# Altium schematic symbol library reg_pmic.SchLib: 7 symbols
Pins are listed as number, name and electrical type; pins without a type are passive.

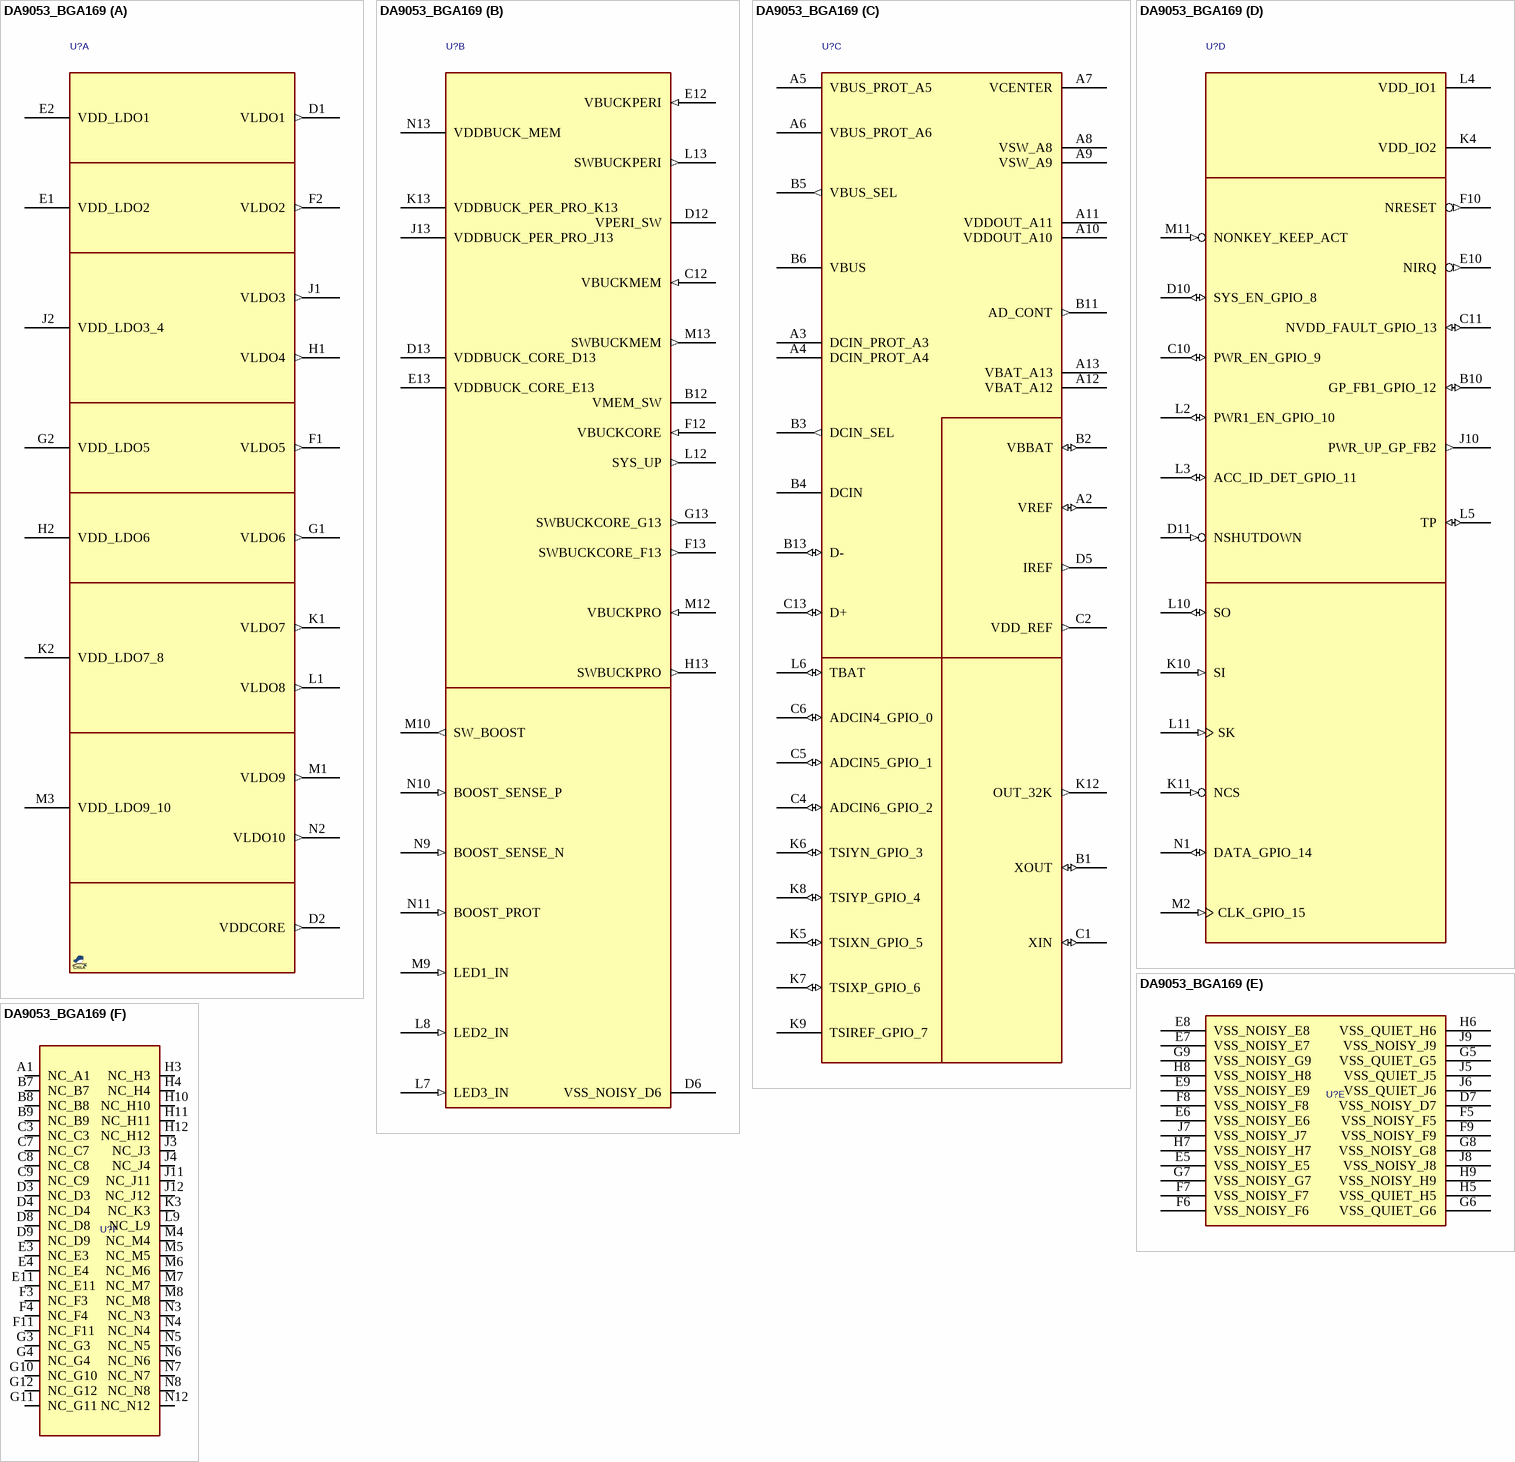
[diagram p0: symbol DA9053_BGA169]

## DA9053_BGA169
designator U?, comment DA9053  (value not drawn)
IC, Regulator PMIC, sw USB PWR MANAGER 5.5V VFBGA169; MANF: Dialog Semiconductor; MANF_P#: DA9053-XXC51; VALUE: DA9053
footprint BGA80_169_S11
part A pins: D1 VLDO1 (out), D2 VDDCORE (out), E1 VDD_LDO2 (power), E2 VDD_LDO1 (power), F1 VLDO5 (out), F2 VLDO2 (out), G1 VLDO6 (out), G2 VDD_LDO5 (power), H1 VLDO4 (out), H2 VDD_LDO6 (power), J1 VLDO3 (out), J2 VDD_LDO3_4 (power), K1 VLDO7 (out), K2 VDD_LDO7_8 (power), L1 VLDO8 (out), M1 VLDO9 (out), M3 VDD_LDO9_10 (power), N2 VLDO10 (out)
part B pins: B12 VMEM_SW (power), C12 VBUCKMEM (in), D6 VSS_NOISY_D6 (power), D12 VPERI_SW (power), D13 VDDBUCK_CORE_D13 (power), E12 VBUCKPERI (in), E13 VDDBUCK_CORE_E13 (power), F12 VBUCKCORE (in), F13 SWBUCKCORE_F13 (out), G13 SWBUCKCORE_G13 (out), H13 SWBUCKPRO (out), J13 VDDBUCK_PER_PRO_J13 (power), K13 VDDBUCK_PER_PRO_K13 (power), L7 LED3_IN (in), L8 LED2_IN (in), L12 SYS_UP (out), L13 SWBUCKPERI (out), M9 LED1_IN (in), M10 SW_BOOST (out), M12 VBUCKPRO (in), M13 SWBUCKMEM (out), N9 BOOST_SENSE_N (in), N10 BOOST_SENSE_P (in), N11 BOOST_PROT (in), N13 VDDBUCK_MEM (power)
part C pins: A2 VREF (io), A3 DCIN_PROT_A3 (power), A4 DCIN_PROT_A4 (power), A5 VBUS_PROT_A5 (power), A6 VBUS_PROT_A6 (power), A7 VCENTER (power), A8 VSW_A8 (power), A9 VSW_A9 (power), A10 VDDOUT_A10 (power), A11 VDDOUT_A11 (power), A12 VBAT_A12 (power), A13 VBAT_A13 (power), B1 XOUT (io), B2 VBBAT (io), B3 DCIN_SEL (out), B4 DCIN (power), B5 VBUS_SEL (out), B6 VBUS (power), B11 AD_CONT (out), B13 D- (io), C1 XIN (io), C2 VDD_REF (out), C4 ADCIN6_GPIO_2 (io), C5 ADCIN5_GPIO_1 (io), C6 ADCIN4_GPIO_0 (io), C13 D+ (io), D5 IREF (out), K5 TSIXN_GPIO_5 (io), K6 TSIYN_GPIO_3 (io), K7 TSIXP_GPIO_6 (io), K8 TSIYP_GPIO_4 (io), K9 TSIREF_GPIO_7 (power), K12 OUT_32K (out), L6 TBAT (io)
part D pins: B10 GP_FB1_GPIO_12 (io), C10 PWR_EN_GPIO_9 (io), C11 NVDD_FAULT_GPIO_13 (io), D10 SYS_EN_GPIO_8 (io), D11 NSHUTDOWN (in), E10 NIRQ (out), F10 NRESET (out), J10 PWR_UP_GP_FB2 (out), K4 VDD_IO2 (power), K10 SI (in), K11 NCS (in), L2 PWR1_EN_GPIO_10 (io), L3 ACC_ID_DET_GPIO_11 (io), L4 VDD_IO1 (power), L5 TP (io), L10 SO (io), L11 SK (in), M2 CLK_GPIO_15 (in), M11 NONKEY_KEEP_ACT (in), N1 DATA_GPIO_14 (io)
part E pins: D7 VSS_NOISY_D7 (power), E5 VSS_NOISY_E5 (power), E6 VSS_NOISY_E6 (power), E7 VSS_NOISY_E7 (power), E8 VSS_NOISY_E8 (power), E9 VSS_NOISY_E9 (power), F5 VSS_NOISY_F5 (power), F6 VSS_NOISY_F6 (power), F7 VSS_NOISY_F7 (power), F8 VSS_NOISY_F8 (power), F9 VSS_NOISY_F9 (power), G5 VSS_QUIET_G5 (power), G6 VSS_QUIET_G6 (power), G7 VSS_NOISY_G7 (power), G8 VSS_NOISY_G8 (power), G9 VSS_NOISY_G9 (power), H5 VSS_QUIET_H5 (power), H6 VSS_QUIET_H6 (power), H7 VSS_NOISY_H7 (power), H8 VSS_NOISY_H8 (power), H9 VSS_NOISY_H9 (power), J5 VSS_QUIET_J5 (power), J6 VSS_QUIET_J6 (power), J7 VSS_NOISY_J7 (power), J8 VSS_NOISY_J8 (power), J9 VSS_NOISY_J9 (power)
part F pins: A1 NC_A1, B7 NC_B7, B8 NC_B8, B9 NC_B9, C3 NC_C3, C7 NC_C7, C8 NC_C8, C9 NC_C9, D3 NC_D3, D4 NC_D4, D8 NC_D8, D9 NC_D9, E3 NC_E3, E4 NC_E4, E11 NC_E11, F3 NC_F3, F4 NC_F4, F11 NC_F11, G3 NC_G3, G4 NC_G4, G10 NC_G10, G11 NC_G11, G12 NC_G12, H3 NC_H3, H4 NC_H4, H10 NC_H10, H11 NC_H11, H12 NC_H12, J3 NC_J3, J4 NC_J4, J11 NC_J11, J12 NC_J12, K3 NC_K3, L9 NC_L9, M4 NC_M4, M5 NC_M5, M6 NC_M6, M7 NC_M7, M8 NC_M8, N3 NC_N3, N4 NC_N4, N5 NC_N5, N6 NC_N6, N7 NC_N7, N8 NC_N8, N12 NC_N12

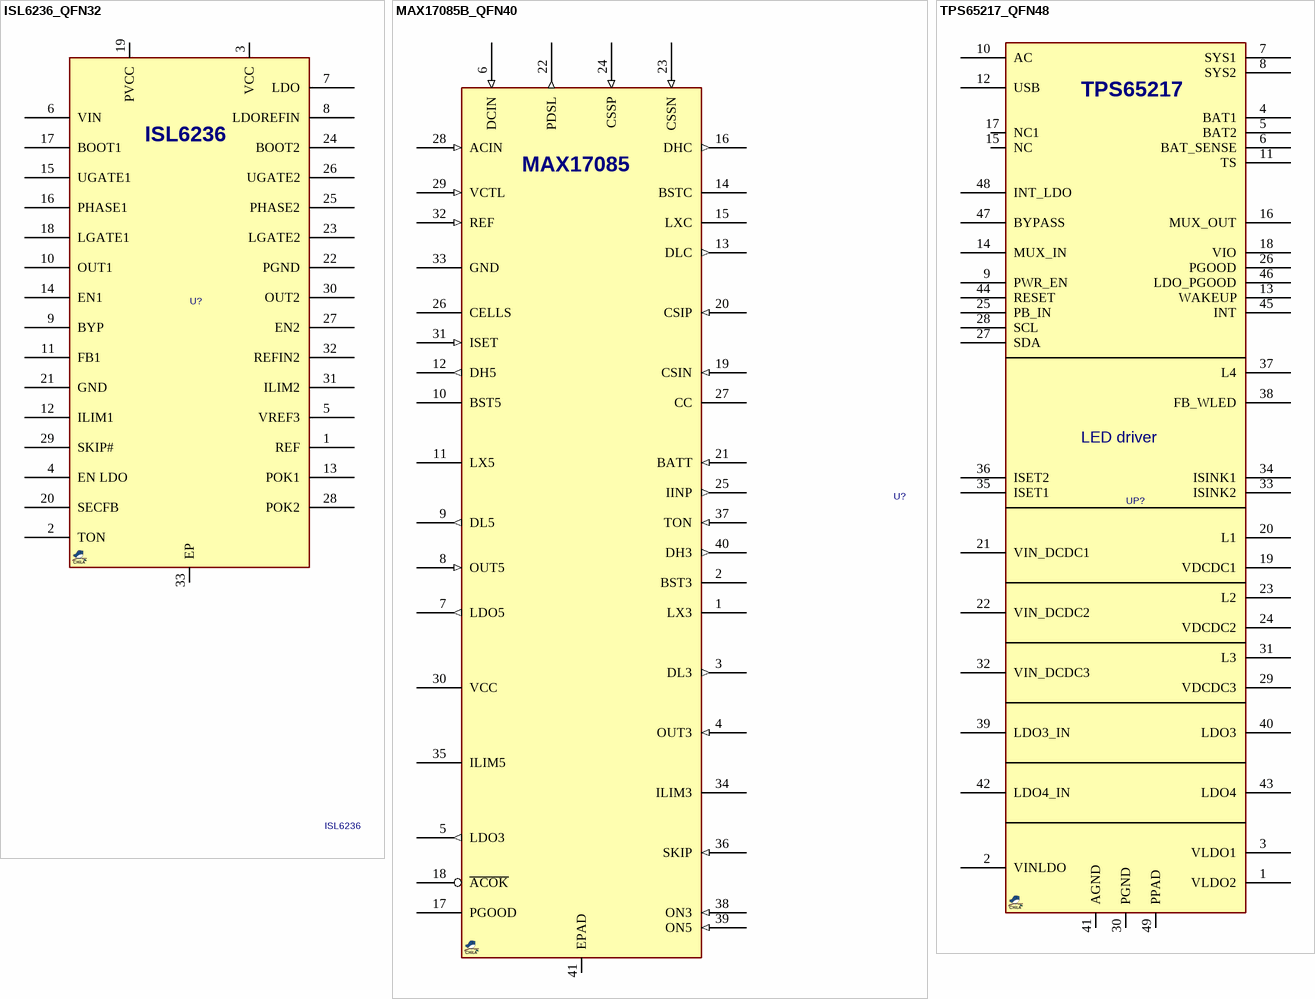
[diagram p1: symbols ISL6236_QFN32 to TPS65217_QFN48]

## ISL6236_QFN32
designator U?, comment ISL6236
IC, Regulator PMIC, 4 output; MANF: Intersil; MANF_P#: ISL6236AIRZ; PARAM2: 4.5V~25Vin, 4 Vout; PARAM: -40~100°C; VALUE: ISL6236; PRICE: 5$
footprint QFN50_32T (QFN, 32, 5X5mm, 0.5mm)
pins: 1 REF, 2 TON, 3 VCC, 4 EN LDO, 5 VREF3, 6 VIN, 7 LDO, 8 LDOREFIN, 9 BYP, 10 OUT1, 11 FB1, 12 ILIM1, 13 POK1, 14 EN1, 15 UGATE1, 16 PHASE1, 17 BOOT1, 18 LGATE1, 19 PVCC, 20 SECFB, 21 GND, 22 PGND, 23 LGATE2, 24 BOOT2, 25 PHASE2, 26 UGATE2, 27 EN2, 28 POK2, 29 SKIP#, 30 OUT2, 31 ILIM2, 32 REFIN2, 33 EP

## MAX17085B_QFN40
designator U?, comment MAX17085  (value not drawn)
IC, Regulator PMIC, CHARGER, 2 LDO 3.3/5V + 2 buck, TQFN40; MANF: Maxim; MANF_P#: MAX17085BETL+; PARAM2: 2 buck, 1.4MHZ; VALUE: MAX17085
footprint QFN40_40T (40 TQFN-EP (maxim), 5X5mm, 0.4mm)
pins: 1 LX3, 2 BST3, 3 DL3 (out), 4 OUT3 (in), 5 LDO3 (out), 6 DCIN (in), 7 LDO5 (out), 8 OUT5 (in), 9 DL5 (out), 10 BST5, 11 LX5, 12 DH5 (out), 13 DLC (out), 14 BSTC, 15 LXC, 16 DHC (out), 17 PGOOD (oc), 18 ~{ACOK} (oc), 19 CSIN (in), 20 CSIP (in), 21 BATT (in), 22 PDSL (out), 23 CSSN (in), 24 CSSP (in), 25 IINP (out), 26 CELLS, 27 CC, 28 ACIN (in), 29 VCTL (in), 30 VCC (power), 31 ISET (in), 32 REF (in), 33 GND (power), 34 ILIM3, 35 ILIM5, 36 SKIP (in), 37 TON (in), 38 ON3 (in), 39 ON5 (in), 40 DH3 (out), 41 EPAD (power)

## TPS65217_QFN48
designator UP?, comment TPS65217  (value not drawn)
IC, Regulator PMIC,; MANF: Texas Instruments; MANF_P#: TPS65217DRSLR; PARAM2: 2.75~5.5V, 3DCDC/ 2+2 LDOs; PARAM: -40~105°C; PRICE: 5.4$; VALUE: TPS65217
footprint QFN40_48T (QFN, 48-Leads, Body 6.00x6.00mm, Pitch 0.40mm, Thermal Pad 4.40x4.40mm)
pins: 1 VLDO2, 2 VINLDO, 3 VLDO1, 4 BAT1, 5 BAT2, 6 BAT_SENSE, 7 SYS1, 8 SYS2, 9 PWR_EN, 10 AC, 11 TS, 12 USB, 13 WAKEUP, 14 MUX_IN, 15 NC, 16 MUX_OUT, 17 NC1, 18 VIO, 19 VDCDC1, 20 L1, 21 VIN_DCDC1, 22 VIN_DCDC2, 23 L2, 24 VDCDC2, 25 PB_IN, 26 PGOOD, 27 SDA, 28 SCL, 29 VDCDC3, 30 PGND, 31 L3, 32 VIN_DCDC3, 33 ISINK2, 34 ISINK1, 35 ISET1, 36 ISET2, 37 L4, 38 FB_WLED, 39 LDO3_IN, 40 LDO3, 41 AGND, 42 LDO4_IN, 43 LDO4, 44 RESET, 45 INT, 46 LDO_PGOOD, 47 BYPASS, 48 INT_LDO, 49 PPAD
text: LED driver

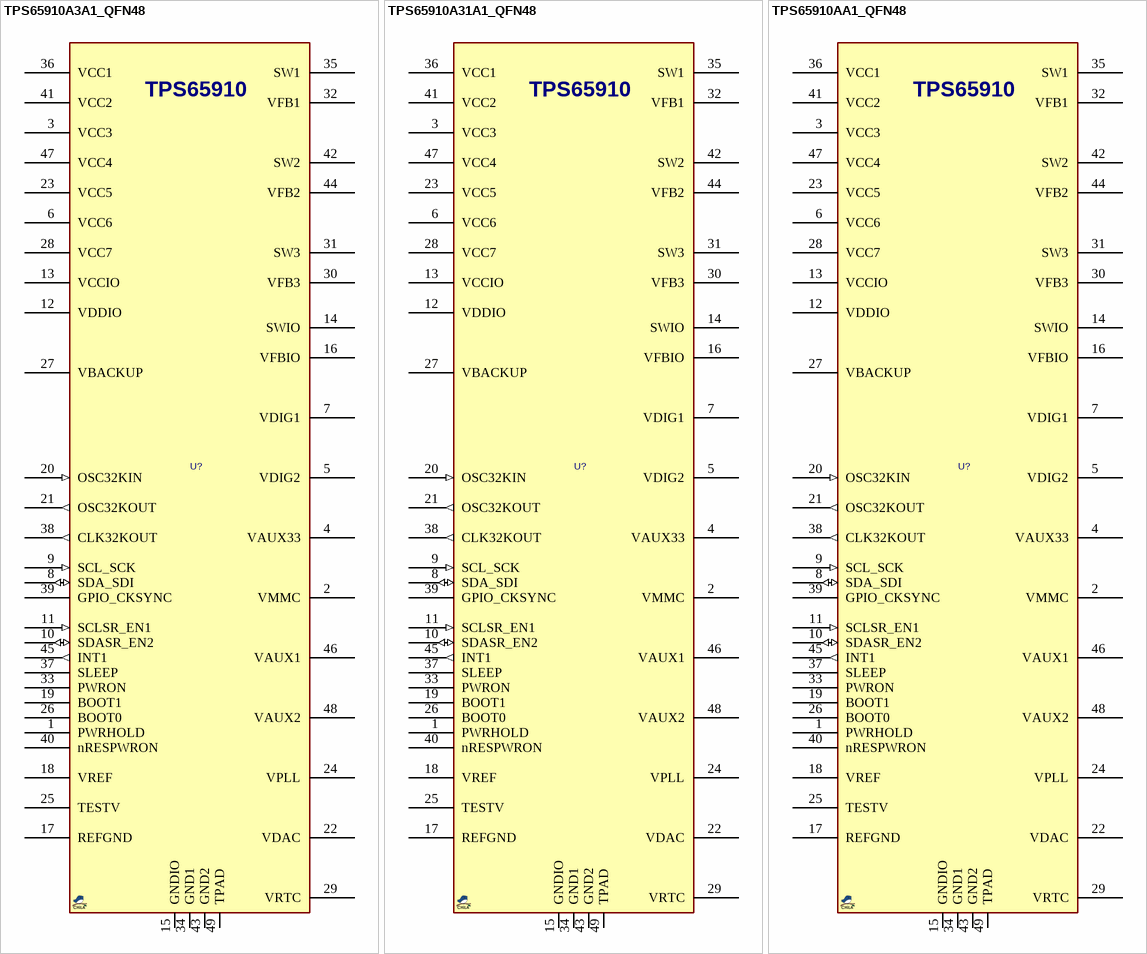
[diagram p2: symbols TPS65910A3A1_QFN48 to TPS65910AA1_QFN48]

## TPS65910A3A1_QFN48
designator U?, comment TPS65910  (value not drawn)
IC, Regulator PMIC, DDR3; MANF: Texas Instruments; MANF_P#: TPS65910A3A1RSL; PARAM2: 2.75~5.5Vin, 3 DCDC/ 9 LDO; PARAM: DDR3, -40~85°C; PRICE: 4.3$; VALUE: TPS65910
footprint QFN40_48T (QFN, 48-Leads, Body 6.00x6.00mm, Pitch 0.40mm, Thermal Pad 4.40x4.40mm)
pins: 1 PWRHOLD, 2 VMMC (power), 3 VCC3 (power), 4 VAUX33 (power), 5 VDIG2, 6 VCC6, 7 VDIG1, 8 SDA_SDI (io), 9 SCL_SCK (in), 10 SDASR_EN2 (io), 11 SCLSR_EN1 (in), 12 VDDIO, 13 VCCIO (power), 14 SWIO (power), 15 GNDIO (power), 16 VFBIO, 17 REFGND (power), 18 VREF, 19 BOOT1, 20 OSC32KIN (in), 21 OSC32KOUT (out), 22 VDAC (power), 23 VCC5 (power), 24 VPLL (power), 25 TESTV, 26 BOOT0, 27 VBACKUP (power), 28 VCC7, 29 VRTC, 30 VFB3, 31 SW3 (power), 32 VFB1, 33 PWRON, 34 GND1 (power), 35 SW1 (power), 36 VCC1, 37 SLEEP, 38 CLK32KOUT (out), 39 GPIO_CKSYNC, 40 nRESPWRON, 41 VCC2, 42 SW2 (power), 43 GND2 (power), 44 VFB2, 45 INT1 (out), 46 VAUX1 (power), 47 VCC4 (power), 48 VAUX2 (power), 49 TPAD (power)

## TPS65910A31A1_QFN48
designator U?, comment TPS65910  (value not drawn)
IC, Regulator PMIC, DDR3, Full power RTC; MANF: Texas Instruments; MANF_P#: TPS65910A31A1RSL; PARAM2: 2.75~5.5Vin, 3 DCDC/ 9 LDO; PARAM: DDR3, Full power RTC, -40~85°C; PRICE: 4.3$; VALUE: TPS65910
footprint QFN40_48T (QFN, 48-Leads, Body 6.00x6.00mm, Pitch 0.40mm, Thermal Pad 4.40x4.40mm)
pins: 1 PWRHOLD, 2 VMMC (power), 3 VCC3 (power), 4 VAUX33 (power), 5 VDIG2, 6 VCC6, 7 VDIG1, 8 SDA_SDI (io), 9 SCL_SCK (in), 10 SDASR_EN2 (io), 11 SCLSR_EN1 (in), 12 VDDIO, 13 VCCIO (power), 14 SWIO (power), 15 GNDIO (power), 16 VFBIO, 17 REFGND (power), 18 VREF, 19 BOOT1, 20 OSC32KIN (in), 21 OSC32KOUT (out), 22 VDAC (power), 23 VCC5 (power), 24 VPLL (power), 25 TESTV, 26 BOOT0, 27 VBACKUP (power), 28 VCC7, 29 VRTC, 30 VFB3, 31 SW3 (power), 32 VFB1, 33 PWRON, 34 GND1 (power), 35 SW1 (power), 36 VCC1, 37 SLEEP, 38 CLK32KOUT (out), 39 GPIO_CKSYNC, 40 nRESPWRON, 41 VCC2, 42 SW2 (power), 43 GND2 (power), 44 VFB2, 45 INT1 (out), 46 VAUX1 (power), 47 VCC4 (power), 48 VAUX2 (power), 49 TPAD (power)

## TPS65910AA1_QFN48
designator U?, comment TPS65910  (value not drawn)
IC, Regulator PMIC, DDR2; MANF: Texas Instruments; MANF_P#: TPS65910AA1RSL; PARAM2: 2.75~5.5Vin, 3 DCDC/ 9 LDO; PARAM: DDR2, -40~85°C; PRICE: 4.3$; VALUE: TPS65910
footprint QFN40_48T (QFN, 48-Leads, Body 6.00x6.00mm, Pitch 0.40mm, Thermal Pad 4.40x4.40mm)
pins: 1 PWRHOLD, 2 VMMC (power), 3 VCC3 (power), 4 VAUX33 (power), 5 VDIG2, 6 VCC6, 7 VDIG1, 8 SDA_SDI (io), 9 SCL_SCK (in), 10 SDASR_EN2 (io), 11 SCLSR_EN1 (in), 12 VDDIO, 13 VCCIO (power), 14 SWIO (power), 15 GNDIO (power), 16 VFBIO, 17 REFGND (power), 18 VREF, 19 BOOT1, 20 OSC32KIN (in), 21 OSC32KOUT (out), 22 VDAC (power), 23 VCC5 (power), 24 VPLL (power), 25 TESTV, 26 BOOT0, 27 VBACKUP (power), 28 VCC7, 29 VRTC, 30 VFB3, 31 SW3 (power), 32 VFB1, 33 PWRON, 34 GND1 (power), 35 SW1 (power), 36 VCC1, 37 SLEEP, 38 CLK32KOUT (out), 39 GPIO_CKSYNC, 40 nRESPWRON, 41 VCC2, 42 SW2 (power), 43 GND2 (power), 44 VFB2, 45 INT1 (out), 46 VAUX1 (power), 47 VCC4 (power), 48 VAUX2 (power), 49 TPAD (power)